# EAGLE library part ADL5906 (library analog-devices)
67 dB TruPwr Detector 10 MHz to 10 GHz
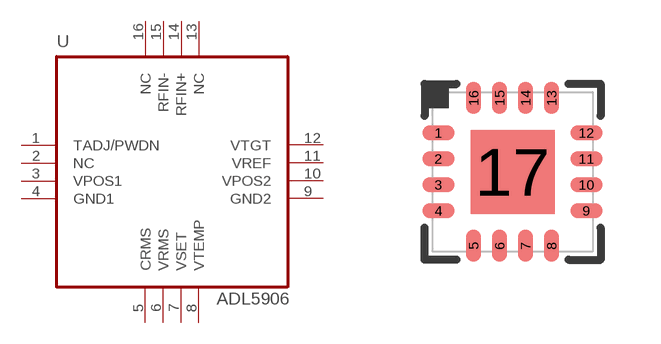
[diagram p66: symbol with the pads of LFCSP16_WQ; footprint LFCSP16_WQ]

Designator prefix U

## ADL5906  [LFCSP16_WQ]
1  TADJ/PWDN  in
2  NC  nc
3  VPOS1  pwr
4  GND1  pwr
5  CRMS  in
6  VRMS  out
7  VSET  in
8  VTEMP  out
9  GND2  pwr
10  VPOS2  pwr
11  VREF  out
12  VTGT  in
13  NC  nc
14  RFIN+  in
15  RFIN-  in
16  NC  nc

## Footprint LFCSP16_WQ (pad centres in mm)
16-Lead Lead Frame Chip Scale Package 4 mm × 4 mm Body, Very Very Thin Quad (CP-16-23)
smd 0.8 x 0.36: 1 -1.85,0.975; 2 -1.85,0.325; 3 -1.85,-0.325; 4 -1.85,-0.975; 9 1.85,-0.975; 10 1.85,-0.325; 11 1.85,0.325; 12 1.85,0.975
smd 0.36 x 0.8: 5 -0.975,-1.85; 6 -0.325,-1.85; 7 0.325,-1.85; 8 0.975,-1.85; 13 0.975,1.85; 14 0.325,1.85; 15 -0.325,1.85; 16 -0.975,1.85
smd 2.1 x 2.1: 17 0,0